# Altium footprint library STM32_PLC.PcbLib: 129 footprints (part 2 of 9)
Each footprint in its own frame and in the unit in brackets; x right, y up, seen from the top. Pads: shape width x height; smd on the part's side, far side on the other; paste and mask are expansions set on the pad; w line width, h text height; cw(c..) or ccw(c..) is an arc to the next point about the centre after c.
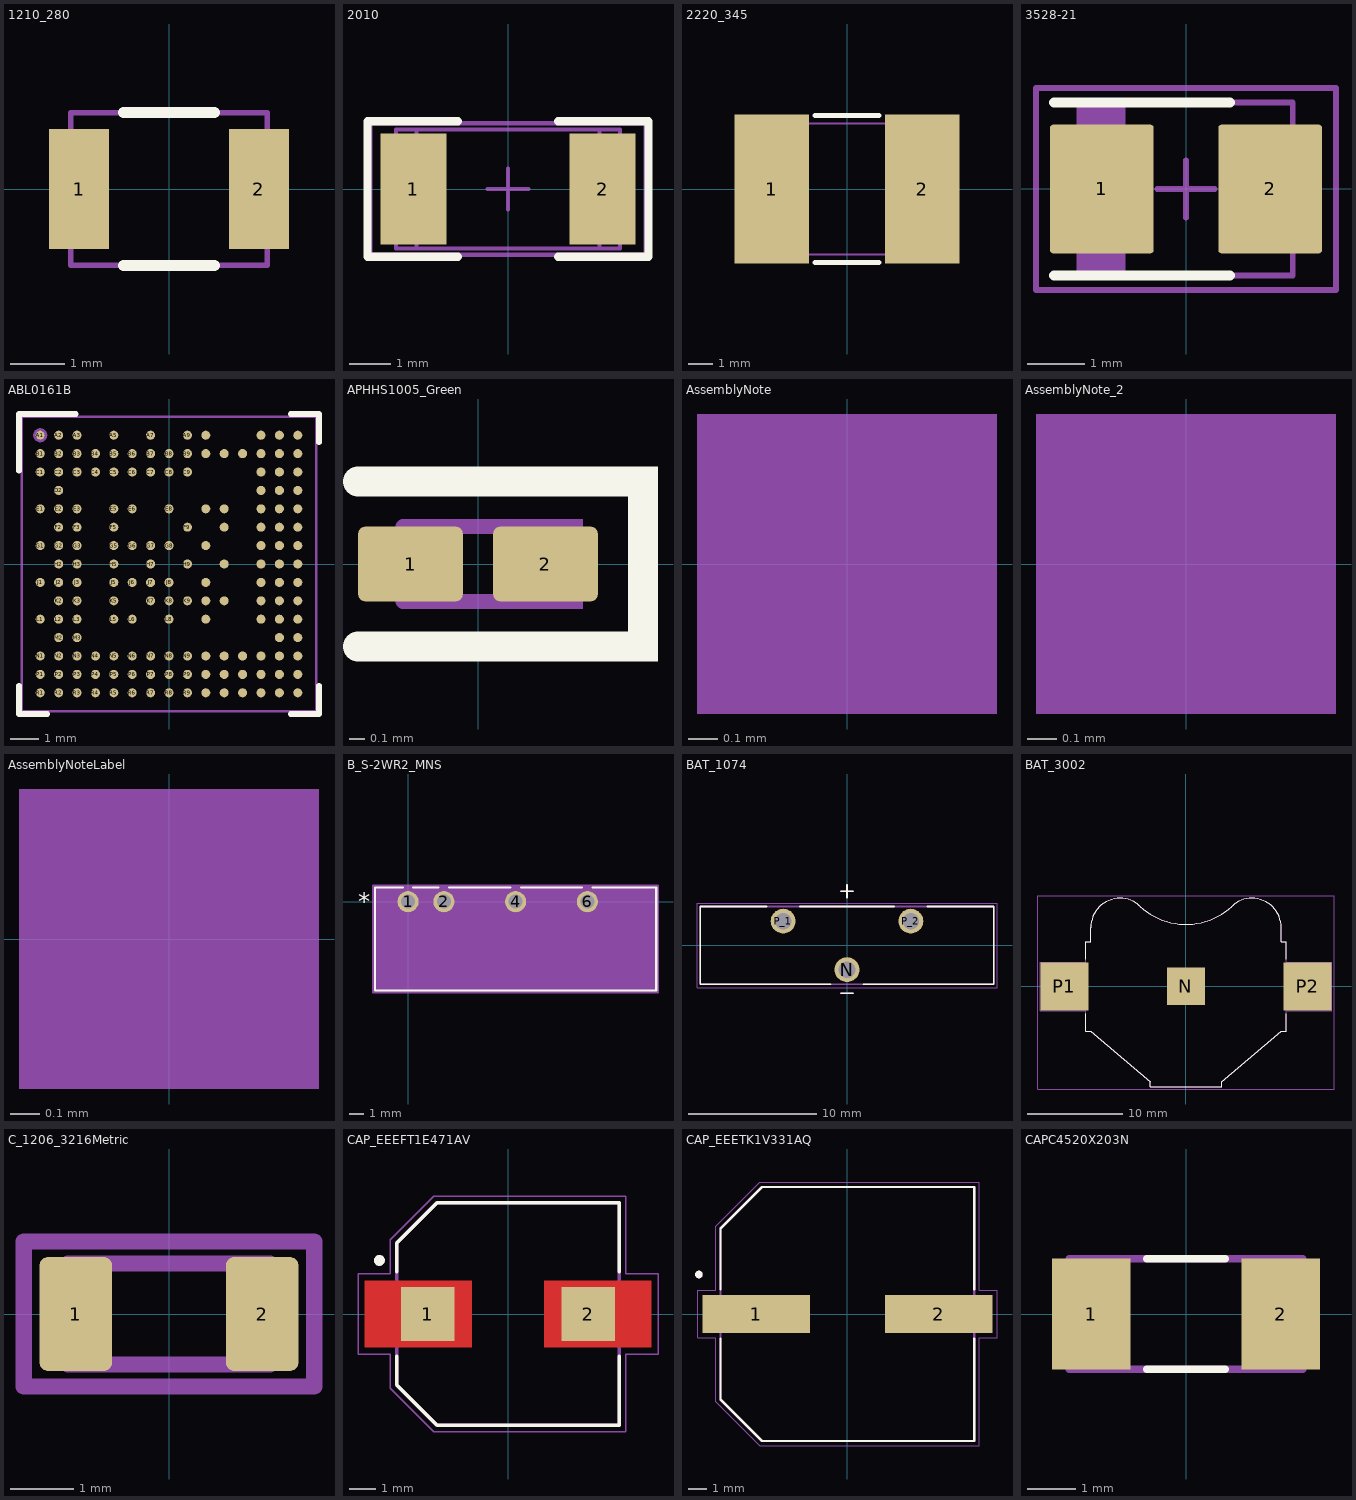
[diagram p1: the footprints below, top view; thin cyan lines are the x and y axes]

## 1210_280 [mm] "SMD, 2-Leads, Body 3.6x2.8mm, Height 2.8mm"
height 2.8
pads (2):
  rect 1.1x2.2 smd: 1(-1.65,0) 2(1.65,0)
Top Overlay:
  lines w0.2: -0.835,-1.4 0.835,-1.4 ; -0.835,1.4 0.835,1.4
Mechanical 5:
  lines w0.1: -1.8,-1.4 -1.8,1.4 1.8,1.4 1.8,-1.4 -1.8,-1.4
  text ".Designator" at 0.754,0.42 h0.8
3D body: height 2.8, standoff 0, extent -1.8,-1.4 -1.6,1.4
3D body: height 2.8, standoff 0, extent -1.6,-1.4 1.6,1.4
3D body: height 2.8, standoff 0, extent 1.6,-1.4 1.8,1.4

## 2010 [mm] "Chip Capacitor, Body 5.08x2.54mm, IPC Medium Density"
height 1.66
pads (2):
  rect 1.6x2.7 smd: 1(-2.3,0) 2(2.3,0)
Top Overlay:
  lines w0.2: -1.219,-1.65 -3.419,-1.65 -3.419,1.65 -1.219,1.65 ; 1.219,-1.65 3.419,-1.65 3.419,1.65 1.219,1.65
Mechanical 5:
  lines w0.1: -2.73,-1.45 -2.73,1.45 2.73,1.45 2.73,-1.45 -2.73,-1.45
  text ".Designator" at -1.875,-0.5 h1.02
Mechanical 14:
  lines w0.1: -2.23,-1.45 -2.23,1.45 ; 2.23,-1.45 2.23,1.45 ; -2.73,-1.45 2.73,-1.45 2.73,1.45 -2.73,1.45 -2.73,-1.45
Mechanical 16:
  lines w0.1: -0.5,0 0.5,0 ; 0,-0.5 0,0.5 ; -3.35,-1.6 3.35,-1.6 3.35,1.6 -3.35,1.6 -3.35,-1.6
3D body: height 1.66, standoff 0, extent -2.729,-1.449 -2.231,1.449
3D body: height 1.66, standoff 0, extent -2.229,-1.449 2.229,1.449
3D body: height 1.66, standoff 0, extent 2.231,-1.449 2.729,1.449

## 2220_345 [mm] "Wurth recommended land pattern"
height 3.45
pads (2):
  rrect3% 3.05x6.1 smd: 1(-3.075,0) 2(3.075,0)
Top Overlay:
  lines w0.2: -1.3,-3 1.3,-3 ; -1.3,3 1.3,3
Mechanical 5:
  lines w0.1: -3.055,-2.675 -3.055,2.675 3.055,2.675 3.055,-2.675 -3.055,-2.675
  text ".Designator" at 1.651,0.011 h1.85
3D body "2220_345.stp": height 3.21, standoff 0.01, extent -2.795,-2.54 2.795,2.54

## 3528-21 [mm] "Medium Density IPC, based on Kemet datasheet 2016-10-20"
height 2.1
pads (2):
  rrect6% 1.8x2.23 smd: 1(-1.46,0) 2(1.46,0)
Top Overlay:
  lines w0.178: -2.286,-1.5 0.762,-1.5 ; -2.286,1.5 0.762,1.5
Mechanical 5:
  rectangle: -1.85,-1.5 -1.1,1.5
  lines w0.1: -1.1,-1.5 -1.1,1.5 ; -1.85,-1.5 1.85,-1.5 1.85,1.5 -1.85,1.5 -1.85,-1.5
  text ".Designator" at -0.619,-0.45 h1.2
Mechanical 15:
  lines w0.1: -0.5,0 0.5,0 ; 0,-0.5 0,0.5 ; -2.6,-1.75 -2.6,1.75 2.6,1.75 2.6,-1.75 -2.6,-1.75
3D body "3528-21.stp": height 2.12, standoff 0.01, extent -1.85,-1.5 1.85,1.5

## ABL0161B [mm] "BGA, 161-Balls, Body 10.4x10.4mm, Pitch 0.65mm"
height 1.17
pads (161):
  round 0.32 smd: A1(-4.55,4.55) A2(-3.9,4.55) A3(-3.25,4.55) A5(-1.95,4.55) A7(-0.65,4.55) A9(0.65,4.55) A10(1.3,4.55) A13(3.25,4.55) A14(3.9,4.55) A15(4.55,4.55) B1(-4.55,3.9) B2(-3.9,3.9) B3(-3.25,3.9) B4(-2.6,3.9) B5(-1.95,3.9) B6(-1.3,3.9) B7(-0.65,3.9) B8(0,3.9) B9(0.65,3.9) B10(1.3,3.9) B11(1.95,3.9) B12(2.6,3.9) B13(3.25,3.9) B14(3.9,3.9) B15(4.55,3.9) C1(-4.55,3.25) C2(-3.9,3.25) C3(-3.25,3.25) C4(-2.6,3.25) C5(-1.95,3.25) C6(-1.3,3.25) C7(-0.65,3.25) C8(0,3.25) C9(0.65,3.25) C13(3.25,3.25) C14(3.9,3.25) C15(4.55,3.25) D2(-3.9,2.6) D13(3.25,2.6) D14(3.9,2.6) D15(4.55,2.6) E1(-4.55,1.95) E2(-3.9,1.95) E3(-3.25,1.95) E5(-1.95,1.95) E6(-1.3,1.95) E8(0,1.95) E10(1.3,1.95) E11(1.95,1.95) E13(3.25,1.95) E14(3.9,1.95) E15(4.55,1.95) F2(-3.9,1.3) F3(-3.25,1.3) F5(-1.95,1.3) F9(0.65,1.3) F11(1.95,1.3) F13(3.25,1.3) F14(3.9,1.3) F15(4.55,1.3) G1(-4.55,0.65) G2(-3.9,0.65) G3(-3.25,0.65) G5(-1.95,0.65) G6(-1.3,0.65) G7(-0.65,0.65) G8(0,0.65) G10(1.3,0.65) G13(3.25,0.65) G14(3.9,0.65) G15(4.55,0.65) H2(-3.9,0) H3(-3.25,0) H5(-1.95,0) H7(-0.65,0) H9(0.65,0) H11(1.95,0) H13(3.25,0) H14(3.9,0) H15(4.55,0) J1(-4.55,-0.65) J2(-3.9,-0.65) J3(-3.25,-0.65) J5(-1.95,-0.65) J6(-1.3,-0.65) J7(-0.65,-0.65) J8(0,-0.65) J10(1.3,-0.65) J13(3.25,-0.65) J14(3.9,-0.65) J15(4.55,-0.65) K2(-3.9,-1.3) K3(-3.25,-1.3) K5(-1.95,-1.3) K7(-0.65,-1.3) K8(0,-1.3) K9(0.65,-1.3) K10(1.3,-1.3) K11(1.95,-1.3) K13(3.25,-1.3) K14(3.9,-1.3) K15(4.55,-1.3) L1(-4.55,-1.95) L2(-3.9,-1.95) L3(-3.25,-1.95) L5(-1.95,-1.95) L6(-1.3,-1.95) L8(0,-1.95) L10(1.3,-1.95) L13(3.25,-1.95) L14(3.9,-1.95) L15(4.55,-1.95) M2(-3.9,-2.6) M3(-3.25,-2.6) M14(3.9,-2.6) M15(4.55,-2.6) N1(-4.55,-3.25) N2(-3.9,-3.25) N3(-3.25,-3.25) N4(-2.6,-3.25) N5(-1.95,-3.25) N6(-1.3,-3.25) N7(-0.65,-3.25) N8(0,-3.25) N9(0.65,-3.25) N10(1.3,-3.25) N11(1.95,-3.25) N12(2.6,-3.25) N13(3.25,-3.25) N14(3.9,-3.25) N15(4.55,-3.25) P1(-4.55,-3.9) P2(-3.9,-3.9) P3(-3.25,-3.9) P4(-2.6,-3.9) P5(-1.95,-3.9) P6(-1.3,-3.9) P7(-0.65,-3.9) P8(0,-3.9) P9(0.65,-3.9) P10(1.3,-3.9) P11(1.95,-3.9) P12(2.6,-3.9) P13(3.25,-3.9) P14(3.9,-3.9) P15(4.55,-3.9) R1(-4.55,-4.55) R2(-3.9,-4.55) R3(-3.25,-4.55) R4(-2.6,-4.55) R5(-1.95,-4.55) R6(-1.3,-4.55) R7(-0.65,-4.55) R8(0,-4.55) R9(0.65,-4.55) R10(1.3,-4.55) R11(1.95,-4.55) R12(2.6,-4.55) R13(3.25,-4.55) R14(3.9,-4.55) R15(4.55,-4.55)
Top Overlay:
  lines w0.2: -5.3,-4.3 -5.3,-5.3 -4.3,-5.3 ; -5.3,3.3 -5.3,5.3 -3.3,5.3 ; 4.3,-5.3 5.3,-5.3 5.3,-4.3 ; 4.3,5.3 5.3,5.3 5.3,4.3
Mechanical 5:
  circle w0.1: c-4.55,4.55 r0.2
  lines w0.1: -5.2,-5.2 5.2,-5.2 5.2,5.2 -5.2,5.2 -5.2,-5.2
  text ".Designator" at 1.157,0.759 h1.02
3D body "ABL0161B.stp": height 0.62, standoff 0, extent -5.2,-5.2 5.2,5.2

## APHHS1005_Green [mm] "SMD, 2-Leads, Body 1x0.5mm"
height 0.6
pads (2):
  rrect20% 0.7x0.5 smd: 1(-0.45,0) 2(0.45,0)
Top Overlay:
  rectangle: 1,-0.65 1.2,0.65
  lines w0.2: -0.8,-0.55 1,-0.55 ; -0.8,0.55 1,0.55
Mechanical 5:
  rectangle: 0.5,-0.3 0.7,0.3
  lines w0.1: -0.5,-0.25 -0.5,0.25 -0.4,0.25 0.4,0.25 0.5,0.25 0.5,-0.25 0.4,-0.25 -0.4,-0.25 -0.5,-0.25
  text ".Designator" at -0.296,-0.157 h0.3
3D body: height 0.5, standoff 0.5, extent 0,-0.1 0.1,0.1
3D body "APHHS1005.stp": height 0.5, standoff 0, extent -0.5,-0.25 0.5,0.25

## AssemblyNote [mm] "Assembly Note"
Mechanical 5:
  rectangle: -0.508,-0.508 0.508,0.508
  text ".Designator" at -4.191,-0.508 h1.02
  text ".Comment" at 1.143,-0.508 h1.02

## AssemblyNote_2 [mm]
Mechanical 5:
  rectangle: -0.508,-0.508 0.508,0.508
  text ".Designator" at -4.191,-0.508 h1.02
  text ".Comment" at 1.143,-0.508 h1.02

## AssemblyNoteLabel [mm] "Assembly Note for PCB Labels"
Mechanical 5:
  rectangle: -0.508,-0.508 0.508,0.508
  text ".Designator" at -4.191,-0.508 h1.02
  text "Install label in silkscreened box after final wash.  Text shall be 8 pt font.  Text shall be per the Label Table in the PDF schematic." at 1.143,-0.508 h1.02

## B_S-2WR2_MNS [mil]
pads (4):
  round 59 hole 39 paste-99999 mask+0: 1(0,0) 2(100,0) 4(300,0) 6(500,0)
Top Overlay:
  lines w6: -14.65,40 -92,40 -92,-248 692,-248 692,40 514.65,40 ; 14.65,40 85.35,40 ; 114.65,40 285.35,40 ; 314.65,40 485.35,40
  text ".Designator" at 162.5,-129 h50
  text "*" at -139.5,-25 h50
Mechanical 13:
  lines w1: -87,-243 -87,35 687,35 687,-243 -87,-243
  text "*" at -89.5,-25 h50
  text ".Designator" at 162.5,-129 h50
Mechanical 15:
  region: 697,-253 -97,-253 -97,45 697,45
  lines w6: -97,-253 697,-253 697,45 -97,45 -97,-253
3D body "B_S-2WR2_MNS.step": height 400, standoff -215.98, extent -137.01,-244.02 637.01,34.02

## BAT_1074 [mm]
height 24.9
pads (3):
  round 1.95 hole 1.3: N(0,-1.9) P_1(-5,1.9) P_2(5,1.9)
Top Overlay:
  lines w0.127: -6.295,3.05 -11.5,3.05 -11.5,-3.05 -1.295,-3.05 ; -3.705,3.05 3.705,3.05 ; -0.5,-3.75 0.5,-3.75 ; -0.5,4.25 0.5,4.25 ; 0,3.75 0,4.75 ; 1.295,-3.05 11.5,-3.05 11.5,3.05 6.295,3.05
Mechanical 13:
  lines w0.127: -0.5,-3.75 0.5,-3.75 ; -0.5,4.25 0.5,4.25 ; 0,3.75 0,4.75 ; -11.5,-3.05 -11.5,3.05 11.5,3.05 11.5,-3.05 -11.5,-3.05
Mechanical 15:
  lines w0.05: -11.75,-3.3 -11.75,3.3 11.75,3.3 11.75,-3.3 -11.75,-3.3
3D body "step_temp.STEP": height 19.88, standoff -1.52, extent -11.5,-3.05 11.493,3.05

## BAT_3002 [mm]
height 3.96
pads (3):
  rect 3.96x3.96 smd paste-3: N(0,0)
  rect 5.08x5.08 smd: P1(-12.825,0) P2(12.825,0)
Top Overlay:
  lines w0.127: -10.552,-2.86 -10.552,-4.703 -10.044,-4.703 -3.783,-10.062 -3.783,-10.57 3.786,-10.57 3.786,-10.062 10.047,-4.703 10.555,-4.703 10.555,-2.86 ; -10.552,2.86 -10.552,4.721 -10.044,4.721 -10.044,6.18 ; -10.044,6.197 cw(c-6.948,6.197) -6.948,9.293 ; -6.965,9.293 cw(c-6.965,6.213) -4.865,8.465 ; -4.866,8.467 ccw(c0.001,13.687) 4.869,8.467 ; 4.868,8.466 cw(c6.968,6.214) 6.968,9.293 ; 6.951,9.293 cw(c6.951,6.197) 10.047,6.197 ; 10.047,6.18 10.047,4.721 10.555,4.721 10.555,2.86
Mechanical 13:
  lines w0.127: -10.044,6.18 -10.044,4.721 -10.552,4.721 -10.552,2.536 -15.378,2.536 -15.378,-2.544 -10.552,-2.544 -10.552,-4.703 -10.044,-4.703 -3.783,-10.062 -3.783,-10.57 3.786,-10.57 3.786,-10.062 10.047,-4.703 10.555,-4.703 10.555,-2.544 15.381,-2.544 15.381,2.536 10.555,2.536 10.555,4.721 10.047,4.721 10.047,6.18 ; -10.044,6.197 cw(c-6.948,6.197) -6.948,9.293 ; -6.965,9.293 cw(c-6.965,6.213) -4.865,8.465 ; -4.866,8.467 ccw(c0.001,13.687) 4.869,8.467 ; 4.868,8.466 cw(c6.968,6.214) 6.968,9.293 ; 6.951,9.293 cw(c6.951,6.197) 10.047,6.197
Mechanical 15:
  lines w0.05: -15.628,-10.82 -15.628,9.543 15.631,9.543 15.631,-10.82 -15.628,-10.82
3D body "step_temp.STEP": height 3.96, standoff 0, extent -15.367,-10.439 15.367,9.423

## C_1206_3216Metric [mm]
pads (2):
  rrect22% 1.15x1.8 smd: 1(-1.475,0) 2(1.475,0)
Mechanical 4:
  lines w0.254: -2.3,-1.15 -2.3,1.15 2.3,1.15 2.3,-1.15 -2.3,-1.15
Mechanical 6:
  lines w0.254: -1.6,-0.8 -1.6,0.8 1.6,0.8 1.6,-0.8 -1.6,-0.8
  text "'.Designator'" at -1.15,-0.319 h0.8
3D body "C_1206_3216Metric.step": height 1.6, standoff 0, extent -1.6,-0.8 1.6,0.8

## CAP_EEEFT1E471AV [mm]
height 10.5
pads (2):
  rect 2x2 smd paste-2 mask+0: 1(-3,0) 2(3,0)
Top Layer:
  region: 3.65,1.25 5.35,1.25 5.35,-1.25 3.65,-1.25 2.35,-1.25 1.35,-1.25 1.35,1.25 2.35,1.25
  region: -2.35,1.25 -1.35,1.25 -1.35,-1.25 -2.35,-1.25 -3.65,-1.25 -5.35,-1.25 -5.35,1.25 -3.65,1.25
Top Overlay:
  circle w0.2: c-4.8,2 r0.1
  lines w0.127: -4.15,-1.57 -4.15,-2.65 -2.65,-4.15 4.15,-4.15 4.15,-1.57 ; -4.15,1.57 -4.15,2.65 -2.65,4.15 4.15,4.15 4.15,1.57
Top Paste:
  region: 3.65,1.25 5.35,1.25 5.35,-1.25 3.65,-1.25 2.35,-1.25 1.35,-1.25 1.35,1.25 2.35,1.25
  region: -2.35,1.25 -1.35,1.25 -1.35,-1.25 -2.35,-1.25 -3.65,-1.25 -5.35,-1.25 -5.35,1.25 -3.65,1.25
Top Solder:
  region: 3.75,1.35 5.45,1.35 5.45,-1.35 3.75,-1.35 2.25,-1.35 1.25,-1.35 1.25,1.35 2.25,1.35
  region: -2.25,1.35 -1.25,1.35 -1.25,-1.35 -2.25,-1.35 -3.75,-1.35 -5.45,-1.35 -5.45,1.35 -3.75,1.35
Mechanical 13:
  circle w0.2: c-4.8,2 r0.1
  lines w0.127: -4.15,-2.65 -2.65,-4.15 4.15,-4.15 4.15,4.15 -2.65,4.15 -4.15,2.65 -4.15,-2.65
Mechanical 15:
  lines w0.05: -5.6,-1.5 -5.6,1.5 -4.4,1.5 -4.4,2.775 -2.775,4.4 4.4,4.4 4.4,1.5 5.6,1.5 5.6,-1.5 4.4,-1.5 4.4,-4.4 -2.775,-4.4 -4.4,-2.775 -4.4,-1.5 -5.6,-1.5
3D body "step_temp.STEP": height 10.5, standoff 0, extent -4.85,-4.15 4.85,4.15

## CAP_EEETK1V331AQ [mm]
pads (2):
  rect 5.7x2 smd: 1(-4.85,0) 2(4.85,0)
Top Overlay:
  circle w0.2: c-7.9,2.1 r0.1
  lines w0.127: -6.75,-1.32 -6.75,-4.55 -4.55,-6.75 6.75,-6.75 6.75,-1.32 ; -6.75,1.32 -6.75,4.55 -4.55,6.75 6.75,6.75 6.75,1.32
Mechanical 13:
  circle w0.2: c-7.9,2.1 r0.1
  lines w0.127: -6.75,-4.55 -4.55,-6.75 6.75,-6.75 6.75,6.75 -4.55,6.75 -6.75,4.55 -6.75,-4.55
Mechanical 15:
  lines w0.05: -7.95,-1.25 -7.95,1.25 -7,1.25 -7,4.675 -4.675,7 7,7 7,1.25 7.95,1.25 7.95,-1.25 7,-1.25 7,-7 -4.675,-7 -7,-4.675 -7,-1.25 -7.95,-1.25
3D body "step_temp.STEP": height 13.5, standoff 0, extent -7.45,-6.75 7.45,6.75

## CAPC4520X203N [mil]
pads (2):
  rect 64x90 smd: 1(-77,0) 2(77,0)
Top Overlay:
  lines w6: -32,-45 32,-45 ; -32,45 32,45
Mechanical 13:
  lines w6: -55,-45 55,-45 ; -55,-45 -95,-45 -95,45 -55,45 ; -55,-45 -55,45 ; -55,45 55,45 ; 55,-45 95,-45 95,45 55,45 ; 55,-45 55,45
3D body "step_temp.STEP": height 57.01, standoff 0, extent -90.55,-39.37 90.55,39.37